# Altium schematic symbol library NXP 74HC00.SchLib: 1 symbol
Pins are listed as number, name and electrical type; pins without a type are passive.

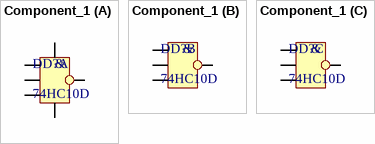
[diagram p0: symbol Component_1]

## Component_1
designator DD?, comment 74HC10D
Tiple 3-input NAND gate; Catalog: *; Catalog number: *; Catalog page: *; Value: *
footprint SOIC127P600-14L (SOIC, 14-Leads, Body 8.7x3.9mm, Pitch 1.27mm, IPC High Density)
part A pins: 1 1A, 2 1B, 7 GND (power), 12 1Y, 13 1C, 14 VCC
part B pins: 3 2A, 4 2B, 5 2C, 6 2Y
part C pins: 8 3Y, 9 3A, 10 3B, 11 3C
part A text: &
part B text: &
part C text: &